# Altium footprint library AltiumV15.PcbLib: 3 footprints
Each footprint in its own frame and in the unit in brackets; x right, y up, seen from the top. Pads: shape width x height; smd on the part's side, far side on the other; paste and mask are expansions set on the pad; w line width, h text height; cw(c..) or ccw(c..) is an arc to the next point about the centre after c.
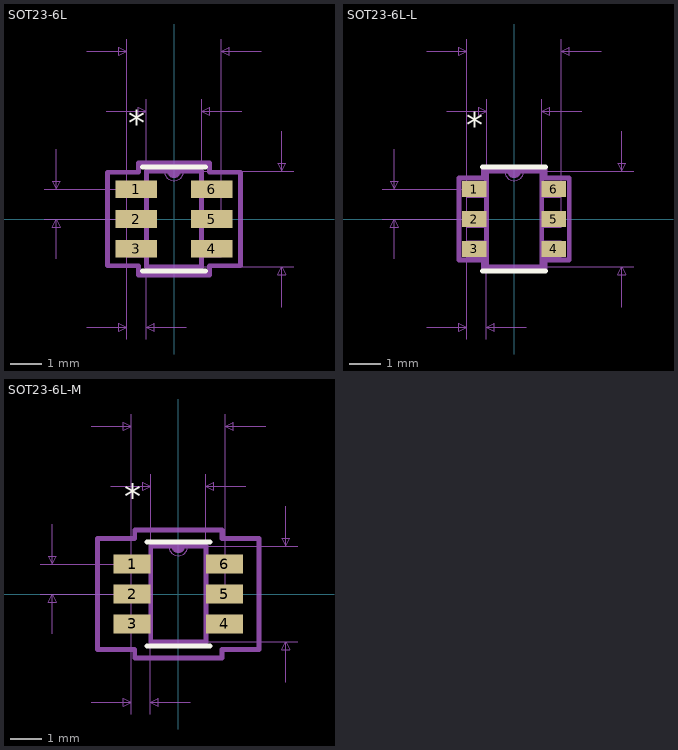
[diagram p0: the footprints below, top view; thin cyan lines are the x and y axes]

## SOT23-6L [mil]
pads (6):
  rect 52x22 all layers, no hole: 1(-47,37.4) 2(-47,0) 3(-47,-37.4) 4(47,-37.4) 5(47,0) 6(47,37.4)
Top Overlay:
  lines w6: -39.5,-65 39.5,-65 ; -39.5,65 39.5,65
  text "*" at -57,104.4 h31.25
Outline:
  lines w1: -12,60 ccw(c0,60) 12,60 ; -59,-47.4 -34.5,-47.4 -34.5,-27.4 -59,-27.4 -59,-47.4 ; -59,-10 -34.5,-10 -34.5,10 -59,10 -59,-10 ; -59,27.4 -34.5,27.4 -34.5,47.4 -59,47.4 -59,27.4 ; -34.5,-60 -34.5,60 34.5,60 34.5,-60 -34.5,-60 ; 34.5,-47.4 59,-47.4 59,-27.4 34.5,-27.4 34.5,-47.4 ; 34.5,-10 59,-10 59,10 34.5,10 34.5,-10 ; 34.5,27.4 59,27.4 59,47.4 34.5,47.4 34.5,27.4
  text "*" at -19.5,57 h31.25
Courtyard Bottom:
  lines w1: -162,0 -47,0 ; -162,37.4 -47,37.4 ; -147,-50 -147,0 ; -147,87.4 -147,37.4 ; -109,-135 -59,-135 ; -109,210 -59,210 ; -84.5,135 -34.5,135 ; -59,-150 -59,0 -59,225 ; -35,-150 -35,0 ; -34.5,0 -34.5,150 ; 0,-60 149.5,-60 ; 0,60 149.5,60 ; 15,-135 -35,-135 ; 34.5,0 34.5,150 ; 59,0 59,225 ; 84.5,135 34.5,135 ; 109,210 59,210 ; 134.5,-110 134.5,-60 ; 134.5,110 134.5,60 ; -147,0 -142,-10 -152,-10 -147,0 ; -147,37.4 -142,47.4 -152,47.4 -147,37.4 ; -59,-135 -69,-140 -69,-130 -59,-135 ; -59,210 -69,205 -69,215 -59,210 ; -35,-135 -25,-140 -25,-130 -35,-135 ; -34.5,135 -44.5,130 -44.5,140 -34.5,135 ; 34.5,135 44.5,130 44.5,140 34.5,135 ; 59,210 69,205 69,215 59,210 ; 134.5,-60 139.5,-70 129.5,-70 134.5,-60 ; 134.5,60 139.5,70 129.5,70 134.5,60
  lines w6: -5.75,60 ccw(c0,60) 5.75,60 ; -83,-58.4 -44.5,-58.4 -44.5,-70 44.5,-70 44.5,-58.4 83,-58.4 83,58.4 44.5,58.4 44.5,70 -44.5,70 -44.5,58.4 -83,58.4 -83,-58.4 ; -34.5,-60 34.5,-60 34.5,60 -34.5,60 -34.5,-60
  text "0.024in/0.61mm" at -47,-155 h15.62
  text "0.037in/0.95mm" at -167,18.7 h15.62
  text "0.12in/3.048mm" at 154.5,0 h15.62
  text "0.118in/2.997mm" at 0,230 h15.62
  text "0.069in/1.753mm" at 0,155 h15.62
  text "Alt 2 Padstyle: OX90Y60D30P" at 0,-510 h31.25
  text "Alt 1 Padstyle: OX60Y90D30P" at 0,-450 h31.25
  text "Pin One Padstyle: RX52Y22D0T" at 0,-270 h31.25
  text "Default Padstyle: RX52Y22D0T" at 0,-210 h31.25

## SOT23-6L-L [mil]
pads (6):
  rect 30.5x20 all layers, no hole: 1(-49.75,37.4) 2(-49.75,0) 3(-49.75,-37.4) 4(49.75,-37.4) 5(49.75,0) 6(49.75,37.4)
Top Overlay:
  lines w6: -39.5,-65 39.5,-65 ; -39.5,65 39.5,65
  text "*" at -59.75,102.4 h31.25
Outline:
  lines w1: -12,60 ccw(c0,60) 12,60 ; -59,-47.4 -34.5,-47.4 -34.5,-27.4 -59,-27.4 -59,-47.4 ; -59,-10 -34.5,-10 -34.5,10 -59,10 -59,-10 ; -59,27.4 -34.5,27.4 -34.5,47.4 -59,47.4 -59,27.4 ; -34.5,-60 -34.5,60 34.5,60 34.5,-60 -34.5,-60 ; 34.5,-47.4 59,-47.4 59,-27.4 34.5,-27.4 34.5,-47.4 ; 34.5,-10 59,-10 59,10 34.5,10 34.5,-10 ; 34.5,27.4 59,27.4 59,47.4 34.5,47.4 34.5,27.4
  text "*" at -19.5,57 h31.25
Courtyard Bottom:
  lines w1: -164.75,0 -49.75,0 ; -164.75,37.4 -49.75,37.4 ; -149.75,-50 -149.75,0 ; -149.75,87.4 -149.75,37.4 ; -109,-135 -59,-135 ; -109,210 -59,210 ; -84.5,135 -34.5,135 ; -59,-150 -59,0 -59,225 ; -35,-150 -35,0 ; -34.5,0 -34.5,150 ; 0,-60 149.5,-60 ; 0,60 149.5,60 ; 15,-135 -35,-135 ; 34.5,0 34.5,150 ; 59,0 59,225 ; 84.5,135 34.5,135 ; 109,210 59,210 ; 134.5,-110 134.5,-60 ; 134.5,110 134.5,60 ; -149.75,0 -144.75,-10 -154.75,-10 -149.75,0 ; -149.75,37.4 -144.75,47.4 -154.75,47.4 -149.75,37.4 ; -59,-135 -69,-140 -69,-130 -59,-135 ; -59,210 -69,205 -69,215 -59,210 ; -35,-135 -25,-140 -25,-130 -35,-135 ; -34.5,135 -44.5,130 -44.5,140 -34.5,135 ; 34.5,135 44.5,130 44.5,140 34.5,135 ; 59,210 69,205 69,215 59,210 ; 134.5,-60 139.5,-70 129.5,-70 134.5,-60 ; 134.5,60 139.5,70 129.5,70 134.5,60
  lines w6: -5.75,60 ccw(c0,60) 5.75,60 ; -69,-51.4 -38.5,-51.4 -38.5,-64 38.5,-64 38.5,-51.4 69,-51.4 69,51.4 38.5,51.4 38.5,64 -38.5,64 -38.5,51.4 -69,51.4 -69,-51.4 ; -34.5,-60 34.5,-60 34.5,60 -34.5,60 -34.5,-60
  text "0.024in/0.61mm" at -47,-155 h15.62
  text "0.037in/0.95mm" at -169.75,18.7 h15.62
  text "0.12in/3.048mm" at 154.5,0 h15.62
  text "0.118in/2.997mm" at 0,230 h15.62
  text "0.069in/1.753mm" at 0,155 h15.62
  text "Alt 2 Padstyle: OX90Y60D30P" at 0,-510 h31.25
  text "Alt 1 Padstyle: OX60Y90D30P" at 0,-450 h31.25
  text "Pin One Padstyle: RX30p5Y20D0T" at 0,-270 h31.25
  text "Default Padstyle: RX30p5Y20D0T" at 0,-210 h31.25

## SOT23-6L-M [mil]
pads (6):
  rect 46.5x24 all layers, no hole: 1(-57.75,37.4) 2(-57.75,0) 3(-57.75,-37.4) 4(57.75,-37.4) 5(57.75,0) 6(57.75,37.4)
Top Overlay:
  lines w6: -39.5,-65 39.5,-65 ; -39.5,65 39.5,65
  text "*" at -67.75,106.4 h31.25
Outline:
  lines w1: -12,60 ccw(c0,60) 12,60 ; -59,-47.4 -34.5,-47.4 -34.5,-27.4 -59,-27.4 -59,-47.4 ; -59,-10 -34.5,-10 -34.5,10 -59,10 -59,-10 ; -59,27.4 -34.5,27.4 -34.5,47.4 -59,47.4 -59,27.4 ; -34.5,-60 -34.5,60 34.5,60 34.5,-60 -34.5,-60 ; 34.5,-47.4 59,-47.4 59,-27.4 34.5,-27.4 34.5,-47.4 ; 34.5,-10 59,-10 59,10 34.5,10 34.5,-10 ; 34.5,27.4 59,27.4 59,47.4 34.5,47.4 34.5,27.4
  text "*" at -19.5,57 h31.25
Courtyard Bottom:
  lines w1: -172.75,0 -57.75,0 ; -172.75,37.4 -57.75,37.4 ; -157.75,-50 -157.75,0 ; -157.75,87.4 -157.75,37.4 ; -109,-135 -59,-135 ; -109,210 -59,210 ; -84.5,135 -34.5,135 ; -59,-150 -59,0 -59,225 ; -35,-150 -35,0 ; -34.5,0 -34.5,150 ; 0,-60 149.5,-60 ; 0,60 149.5,60 ; 15,-135 -35,-135 ; 34.5,0 34.5,150 ; 59,0 59,225 ; 84.5,135 34.5,135 ; 109,210 59,210 ; 134.5,-110 134.5,-60 ; 134.5,110 134.5,60 ; -157.75,0 -152.75,-10 -162.75,-10 -157.75,0 ; -157.75,37.4 -152.75,47.4 -162.75,47.4 -157.75,37.4 ; -59,-135 -69,-140 -69,-130 -59,-135 ; -59,210 -69,205 -69,215 -59,210 ; -35,-135 -25,-140 -25,-130 -35,-135 ; -34.5,135 -44.5,130 -44.5,140 -34.5,135 ; 34.5,135 44.5,130 44.5,140 34.5,135 ; 59,210 69,205 69,215 59,210 ; 134.5,-60 139.5,-70 129.5,-70 134.5,-60 ; 134.5,60 139.5,70 129.5,70 134.5,60
  lines w6: -5.75,60 ccw(c0,60) 5.75,60 ; -101,-69.4 -54.5,-69.4 -54.5,-80 54.5,-80 54.5,-69.4 101,-69.4 101,69.4 54.5,69.4 54.5,80 -54.5,80 -54.5,69.4 -101,69.4 -101,-69.4 ; -34.5,-60 34.5,-60 34.5,60 -34.5,60 -34.5,-60
  text "0.024in/0.61mm" at -47,-155 h15.62
  text "0.037in/0.95mm" at -177.75,18.7 h15.62
  text "0.12in/3.048mm" at 154.5,0 h15.62
  text "0.118in/2.997mm" at 0,230 h15.62
  text "0.069in/1.753mm" at 0,155 h15.62
  text "Alt 2 Padstyle: OX90Y60D30P" at 0,-510 h31.25
  text "Alt 1 Padstyle: OX60Y90D30P" at 0,-450 h31.25
  text "Pin One Padstyle: RX46p5Y24D0T" at 0,-270 h31.25
  text "Default Padstyle: RX46p5Y24D0T" at 0,-210 h31.25